# Altium schematic symbol library DC-DC modules.SchLib: 1 symbol
Pins are listed as number, name and electrical type; pins without a type are passive.

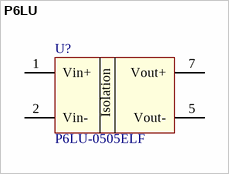
[diagram p0: symbol P6LU]

## P6LU
designator U?, comment P6LU-0505ELF
DC-DC isolated; value: P6LU-0505ELF
footprint P6LU (DC-DC isolated module)
pins: 1 Vin+ (power), 2 Vin- (power), 5 Vout- (power), 7 Vout+ (power)
text: Isolation